# Altium schematic symbol library Schlib1.SchLib: 9 symbols
Pins are listed as number, name and electrical type; pins without a type are passive.

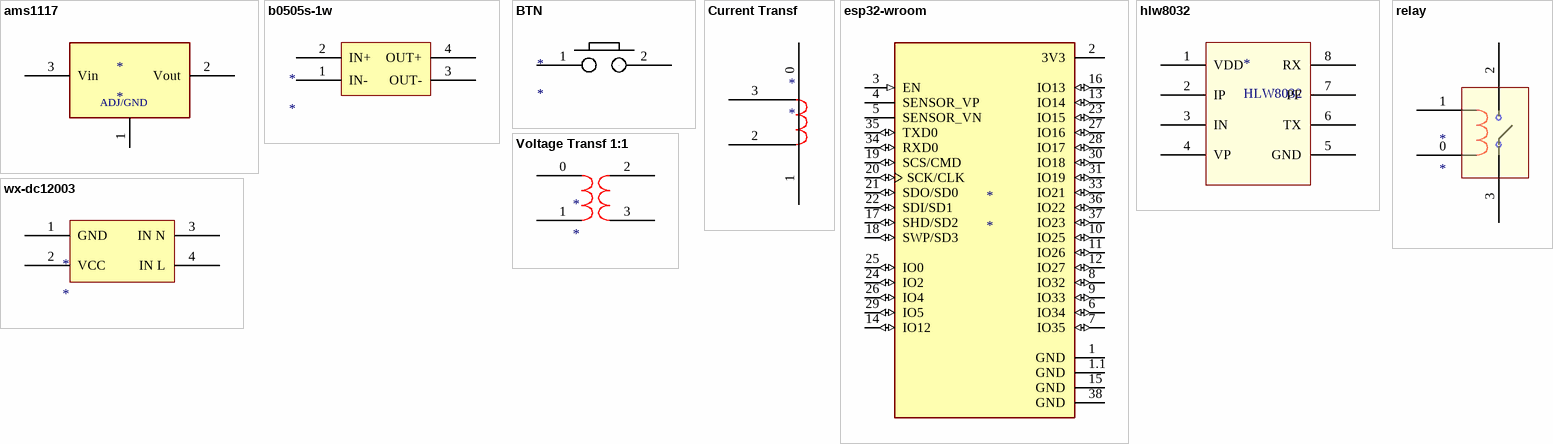
[diagram p0: symbols ams1117 to wx-dc12003]

## ams1117
designator *
footprint ams1117
pins: 1 ADJ/GND (power), 2 Vout, 3 Vin

## b0505s-1w
designator *
footprint B0505S
pins: 1 IN-, 2 IN+, 3 OUT-, 4 OUT+

## BTN
designator *
footprint BUTTON
pins: 1, 2

## Current Transf
designator *
footprint zmct118a
pins: 0, 1, 2, 3

## esp32-wroom
designator *
footprint esp32-wroom
pins: 1 GND (power), 1.1 GND (power), 2 3V3 (power), 3 EN (in), 4 SENSOR_VP, 5 SENSOR_VN, 6 IO34 (io), 7 IO35 (io), 8 IO32 (io), 9 IO33 (io), 10 IO25 (io), 11 IO26 (io), 12 IO27 (io), 13 IO14 (io), 14 IO12 (io), 15 GND (power), 16 IO13 (io), 17 SHD/SD2 (io), 18 SWP/SD3 (io), 19 SCS/CMD (io), 20 SCK/CLK (io), 21 SDO/SD0 (io), 22 SDI/SD1 (io), 23 IO15 (io), 24 IO2 (io), 25 IO0 (io), 26 IO4 (io), 27 IO16 (io), 28 IO17 (io), 29 IO5 (io), 30 IO18 (io), 31 IO19 (io), 33 IO21 (io), 34 RXD0 (io), 35 TXD0 (io), 36 IO22 (io), 37 IO23 (io), 38 GND (power)

## hlw8032
designator *, comment HLW8032
pins: 1 VDD, 2 IP, 3 IN, 4 VP, 5 GND, 6 TX, 7 PF, 8 RX

## relay
designator *
footprint SMIH-05VDC-SL-A
pins: 0, 1, 2 (power), 3 (power)

## Voltage Transf 1:1
designator *
footprint zmpt107-1
pins: 0, 1, 2, 3

## wx-dc12003
designator *
footprint wx-dc12003
pins: 1 GND (power), 2 VCC (power), 3 IN N (power), 4 IN L (power)